# Altium footprint library WR-TBL_Rising Cage Clamp_3.50mm.PcbLib: 34 footprints (part 2 of 3)
Each footprint in its own frame and in the unit in brackets; x right, y up, seen from the top. Pads: shape width x height; smd on the part's side, far side on the other; paste and mask are expansions set on the pad; w line width, h text height; cw(c..) or ccw(c..) is an arc to the next point about the centre after c.
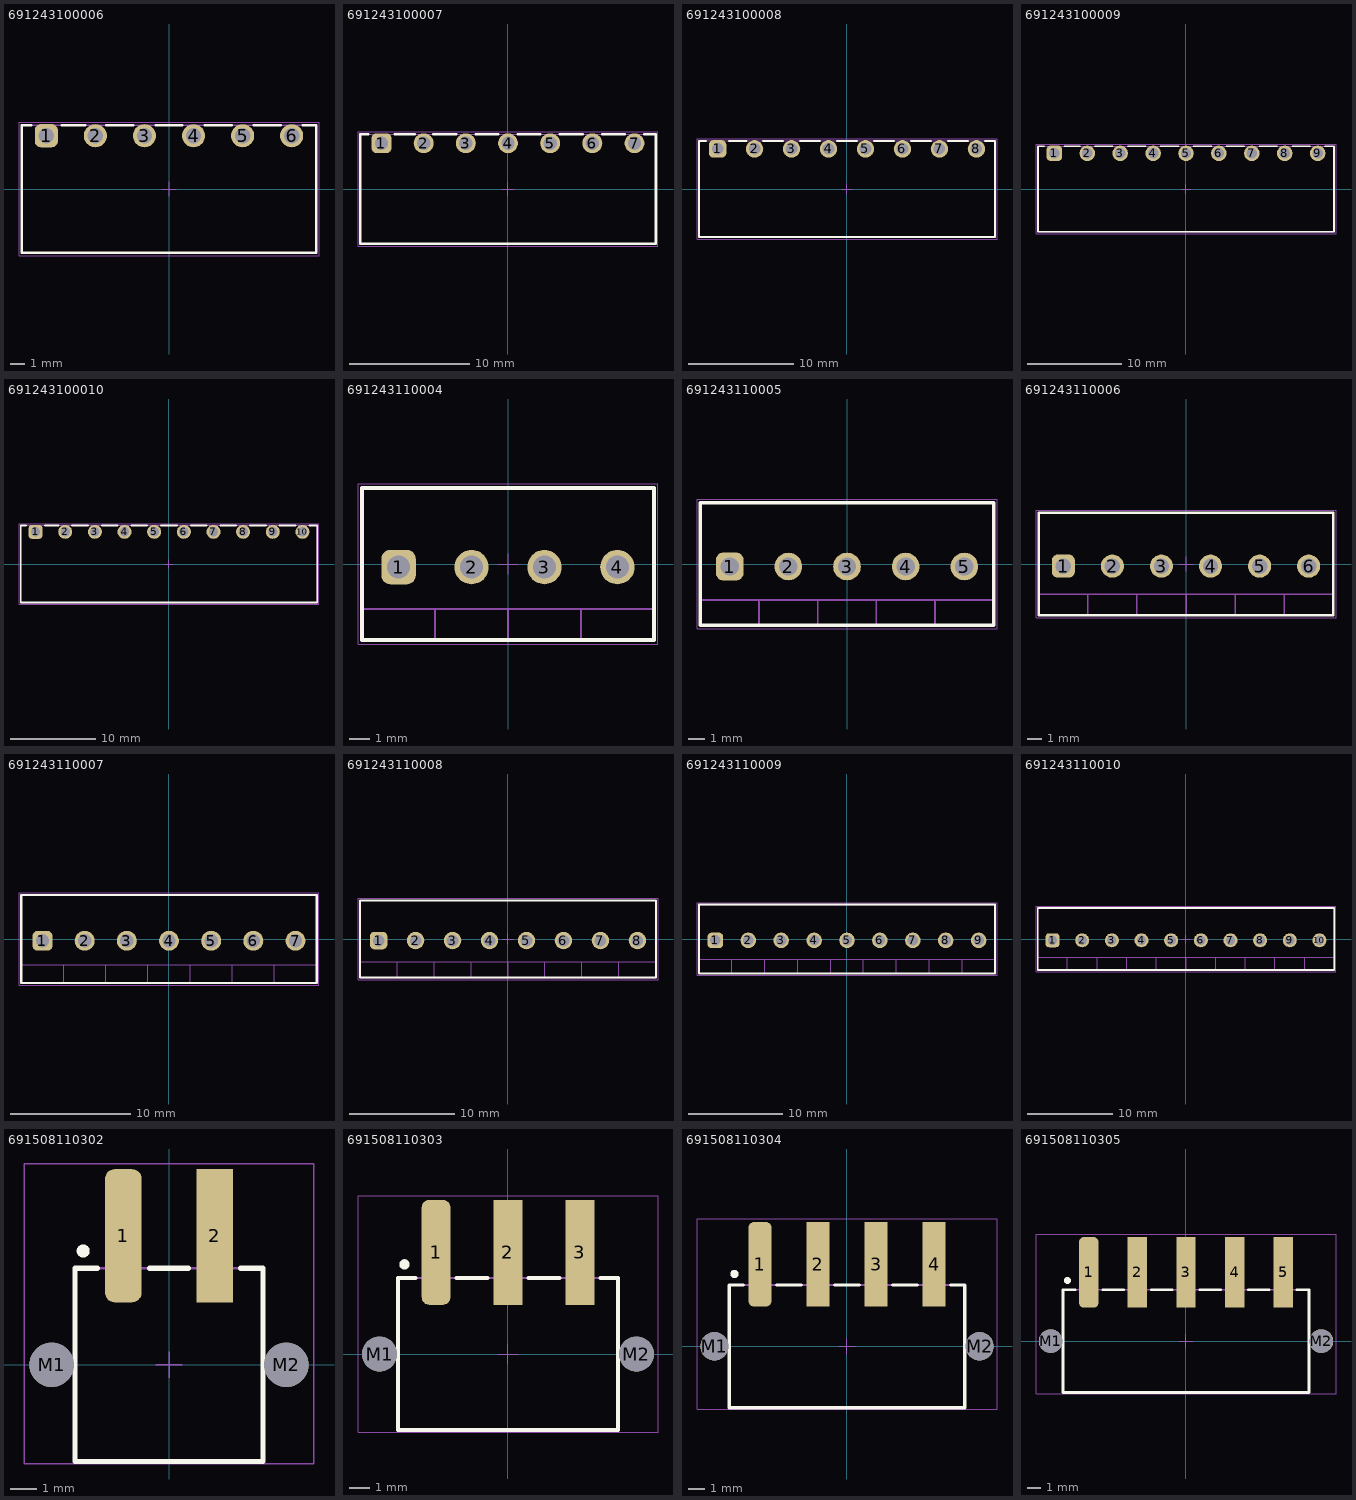
[diagram p1: the footprints below, top view; thin cyan lines are the x and y axes]

## 691243100006 [mm] "Serie 2431 - 3.50 mm _ 6 pins"
height 7.3
pads (6):
  rrect50% 1.65x1.65 hole 1.1: 1(-8.75,3.8)
  round 1.65 hole 1.1: 2(-5.25,3.8) 3(-1.75,3.8) 4(1.75,3.8) 5(5.25,3.8) 6(8.75,3.8)
Top Overlay:
  lines w0.2: -9.85,4.55 -10.5,4.55 -10.5,-4.55 10.5,-4.55 10.5,4.55 9.55,4.55 ; -7.65,4.55 -6,4.55 ; -4.45,4.55 -2.55,4.55 ; -0.95,4.55 0.95,4.55 ; 2.55,4.55 4.45,4.55 ; 6.05,4.55 7.95,4.55
Top Designator:
  text ".Designator" at -7.498,-0.5 h1.5
Top Component Outline:
  lines w0.1: -10.5,-4.55 10.5,-4.55 10.5,4.55 -10.5,4.55 -10.5,-4.55
Top 3D Body:
  lines w0.1: -10.5,-4.55 -10.5,4.55 10.5,4.55 10.5,-4.55 -10.5,-4.55
Top Courtyard:
  lines w0.05: -10.7,-4.75 10.7,-4.75 10.7,4.75 -10.7,4.75 -10.7,-4.75
Top Component Center:
  lines w0.05: -0.5,0 0.5,0 ; 0,-0.5 0,0.5
3D body "691243100006.stp": height 7.35, standoff -3.45, extent -10.5,-4.55 10.5,4.55

## 691243100007 [mm] "Serie 2431 - 3.50 mm _ 7 pins"
height 7.3
pads (7):
  rrect50% 1.65x1.65 hole 1.1: 1(-10.5,3.8)
  round 1.65 hole 1.1: 2(-7,3.8) 3(-3.5,3.8) 4(0,3.8) 5(3.5,3.8) 6(7,3.8) 7(10.5,3.8)
Top Overlay:
  lines w0.2: -11.6,4.55 -12.25,4.55 -12.25,-4.55 12.25,-4.55 12.25,4.55 11.3,4.55 ; -9.4,4.55 -7.75,4.55 ; -6.2,4.55 -4.3,4.55 ; -2.7,4.55 -0.8,4.55 ; 0.8,4.55 2.7,4.55 ; 4.3,4.55 6.2,4.55 ; 7.8,4.55 9.7,4.55
Top Designator:
  text ".Designator" at -7.498,-0.5 h1.5
Top Component Outline:
  lines w0.1: -12.25,-4.55 12.25,-4.55 12.25,4.55 -12.25,4.55 -12.25,-4.55
Top 3D Body:
  lines w0.1: -12.25,-4.55 -12.25,4.55 12.25,4.55 12.25,-4.55 -12.25,-4.55
Top Courtyard:
  lines w0.05: -12.45,-4.75 12.45,-4.75 12.45,4.75 -12.45,4.75 -12.45,-4.75
Top Component Center:
  lines w0.05: -0.5,0 0.5,0 ; 0,-0.5 0,0.5
3D body "691243100007.stp": height 7.35, standoff -3.45, extent -12.25,-4.55 12.25,4.55

## 691243100008 [mm] "Serie 2431 - 3.50 mm _ 8 pins"
height 7.3
pads (8):
  rrect50% 1.65x1.65 hole 1.1: 1(-12.25,3.8)
  round 1.65 hole 1.1: 2(-8.75,3.8) 3(-5.25,3.8) 4(-1.75,3.8) 5(1.75,3.8) 6(5.25,3.8) 7(8.75,3.8) 8(12.25,3.8)
Top Overlay:
  lines w0.2: -13.35,4.55 -14,4.55 -14,-4.55 14,-4.55 14,4.55 13.05,4.55 ; -11.15,4.55 -9.5,4.55 ; -7.95,4.55 -6.05,4.55 ; -4.45,4.55 -2.55,4.55 ; -0.95,4.55 0.95,4.55 ; 2.55,4.55 4.45,4.55 ; 6.05,4.55 7.95,4.55 ; 9.55,4.55 11.45,4.55
Top Designator:
  text ".Designator" at -7.498,-0.5 h1.5
Top Component Outline:
  lines w0.1: -14,-4.55 -14,4.55 14,4.55 14,-4.55 -14,-4.55
Top 3D Body:
  lines w0.1: -14,-4.55 14,-4.55 14,4.55 -14,4.55 -14,-4.55
Top Courtyard:
  lines w0.05: -14.2,-4.75 -14.2,4.75 14.2,4.75 14.2,-4.75 -14.2,-4.75
Top Component Center:
  lines w0.05: -0.5,0 0.5,0 ; 0,-0.5 0,0.5
3D body "691243100008.stp": height 7.35, standoff -3.45, extent -14,-4.55 14,4.55

## 691243100009 [mm] "Serie 2431 - 3.50 mm _ 9 pins"
height 7.3
pads (9):
  rrect50% 1.65x1.65 hole 1.1: 1(-14,3.8)
  round 1.65 hole 1.1: 2(-10.5,3.8) 3(-7,3.8) 4(-3.5,3.8) 5(0,3.8) 6(3.5,3.8) 7(7,3.8) 8(10.5,3.8) 9(14,3.8)
Top Overlay:
  lines w0.2: -15.1,4.55 -15.75,4.55 -15.75,-4.55 15.75,-4.55 15.75,4.55 14.8,4.55 ; -12.9,4.55 -11.25,4.55 ; -9.7,4.55 -7.8,4.55 ; -6.2,4.55 -4.3,4.55 ; -2.7,4.55 -0.8,4.55 ; 0.8,4.55 2.7,4.55 ; 4.3,4.55 6.2,4.55 ; 7.8,4.55 9.7,4.55 ; 11.3,4.55 13.2,4.55
Top Designator:
  text ".Designator" at -7.498,-0.5 h1.5
Top Component Outline:
  lines w0.1: -15.75,-4.55 15.75,-4.55 15.75,4.55 -15.75,4.55 -15.75,-4.55
Top 3D Body:
  lines w0.1: -15.75,-4.55 -15.75,4.55 15.75,4.55 15.75,-4.55 -15.75,-4.55
Top Courtyard:
  lines w0.05: -15.95,-4.75 15.95,-4.75 15.95,4.75 -15.95,4.75 -15.95,-4.75
Top Component Center:
  lines w0.05: -0.5,0 0.5,0 ; 0,-0.5 0,0.5
3D body "691243100009.stp": height 7.35, standoff -3.45, extent -15.75,-4.55 15.75,4.55

## 691243100010 [mm] "Serie 2431 - 3.50 mm _ 10 pins"
height 7.3
pads (10):
  rrect50% 1.65x1.65 hole 1.1: 1(-15.75,3.8)
  round 1.65 hole 1.1: 2(-12.25,3.8) 3(-8.75,3.8) 4(-5.25,3.8) 5(-1.75,3.8) 6(1.75,3.8) 7(5.25,3.8) 8(8.75,3.8) 9(12.25,3.8) 10(15.75,3.8)
Top Overlay:
  lines w0.2: -16.85,4.55 -17.5,4.55 -17.5,-4.55 17.5,-4.55 17.5,4.55 16.55,4.55 ; -14.65,4.55 -13,4.55 ; -11.45,4.55 -9.55,4.55 ; -7.95,4.55 -6.05,4.55 ; -4.45,4.55 -2.55,4.55 ; -0.95,4.55 0.95,4.55 ; 2.55,4.55 4.45,4.55 ; 6.05,4.55 7.95,4.55 ; 9.55,4.55 11.45,4.55 ; 13.05,4.55 14.95,4.55
Top Designator:
  text ".Designator" at -7.498,-0.5 h1.5
Top Component Outline:
  lines w0.1: -17.5,-4.55 17.5,-4.55 17.5,4.55 -17.5,4.55 -17.5,-4.55
Top 3D Body:
  lines w0.1: -17.5,-4.55 -17.5,4.55 17.5,4.55 17.5,-4.55 -17.5,-4.55
Top Courtyard:
  lines w0.05: -17.7,-4.75 17.7,-4.75 17.7,4.75 -17.7,4.75 -17.7,-4.75
Top Component Center:
  lines w0.05: -0.5,0 0.5,0 ; 0,-0.5 0,0.5
3D body "691243100010.stp": height 7.35, standoff -3.45, extent -17.5,-4.55 17.5,4.55

## 691243110004 [mm] "Serie 2431 - 3.50 mm_4 pins"
height 9.1
pads (4):
  rrect50% 1.65x1.65 hole 1.1: 1(-5.25,-0.15)
  round 1.65 hole 1.1: 2(-1.75,-0.15) 3(1.75,-0.15) 4(5.25,-0.15)
Top Overlay:
  lines w0.2: -7,-3.65 7,-3.65 7,3.65 -7,3.65 -7,-3.65
Top Designator:
  text ".Designator" at -7.498,-0.5 h1.5
Top Component Outline:
  lines w0.1: -7,-2.15 7,-2.15 ; -3.5,-3.65 -3.5,-2.15 ; 0,-3.65 0,-2.15 ; 3.5,-3.65 3.5,-2.15 ; -7,-3.65 -7,3.65 7,3.65 7,-3.65 -7,-3.65
Top 3D Body:
  lines w0.1: -7,-2.15 7,-2.15 ; -3.5,-3.65 -3.5,-2.15 ; 0,-3.65 0,-2.15 ; 3.5,-3.65 3.5,-2.15 ; -7,-3.65 7,-3.65 7,3.65 -7,3.65 -7,-3.65
Top Courtyard:
  lines w0.05: -7.2,-3.85 7.2,-3.85 7.2,3.85 -7.2,3.85 -7.2,-3.85
Top Component Center:
  lines w0.05: -0.5,0 0.5,0 ; 0,-0.5 0,0.5
3D body "691243110004.stp": height 9.15, standoff -3.45, extent -7,-3.65 7,3.65

## 691243110005 [mm] "Serie 2431 - 3.50 mm_5 pins"
height 9.1
pads (5):
  rrect50% 1.65x1.65 hole 1.1: 1(-7,-0.15)
  round 1.65 hole 1.1: 2(-3.5,-0.15) 3(0,-0.15) 4(3.5,-0.15) 5(7,-0.15)
Top Overlay:
  lines w0.2: -8.75,-3.65 8.75,-3.65 8.75,3.65 -8.75,3.65 -8.75,-3.65
Top Designator:
  text ".Designator" at -7.498,-0.5 h1.5
Top Component Outline:
  lines w0.1: -8.75,-2.15 8.75,-2.15 ; -5.25,-3.65 -5.25,-2.15 ; -1.75,-3.65 -1.75,-2.15 ; 1.75,-3.65 1.75,-2.15 ; 5.25,-3.65 5.25,-2.15 ; -8.75,-3.65 -8.75,3.65 8.75,3.65 8.75,-3.65 -8.75,-3.65
Top 3D Body:
  lines w0.1: -8.75,-2.15 8.75,-2.15 ; -5.25,-3.65 -5.25,-2.15 ; -1.75,-3.65 -1.75,-2.15 ; 1.75,-3.65 1.75,-2.15 ; 5.25,-3.65 5.25,-2.15 ; -8.75,-3.65 8.75,-3.65 8.75,3.65 -8.75,3.65 -8.75,-3.65
Top Courtyard:
  lines w0.05: -8.95,-3.85 8.95,-3.85 8.95,3.85 -8.95,3.85 -8.95,-3.85
Top Component Center:
  lines w0.05: -0.5,0 0.5,0 ; 0,-0.5 0,0.5
3D body "691243110005.stp": height 9.15, standoff -3.45, extent -8.75,-3.65 8.75,3.65

## 691243110006 [mm] "Serie 2431 - 3.50 mm_6 pins"
height 9.1
pads (6):
  rrect50% 1.65x1.65 hole 1.1: 1(-8.75,-0.15)
  round 1.65 hole 1.1: 2(-5.25,-0.15) 3(-1.75,-0.15) 4(1.75,-0.15) 5(5.25,-0.15) 6(8.75,-0.15)
Top Overlay:
  lines w0.2: -10.5,-3.65 10.5,-3.65 10.5,3.65 -10.5,3.65 -10.5,-3.65
Top Designator:
  text ".Designator" at -7.498,-0.5 h1.5
Top Component Outline:
  lines w0.1: -10.5,-2.15 10.5,-2.15 ; -7,-3.65 -7,-2.15 ; -3.5,-3.65 -3.5,-2.15 ; 0,-3.65 0,-2.15 ; 3.5,-3.65 3.5,-2.15 ; 7,-3.65 7,-2.15 ; -10.5,-3.65 -10.5,3.65 10.5,3.65 10.5,-3.65 -10.5,-3.65
Top 3D Body:
  lines w0.1: -10.5,-2.15 10.5,-2.15 ; -7,-3.65 -7,-2.15 ; -3.5,-3.65 -3.5,-2.15 ; 0,-3.65 0,-2.15 ; 3.5,-3.65 3.5,-2.15 ; 7,-3.65 7,-2.15 ; -10.5,-3.65 10.5,-3.65 10.5,3.65 -10.5,3.65 -10.5,-3.65
Top Courtyard:
  lines w0.05: -10.7,-3.85 10.7,-3.85 10.7,3.85 -10.7,3.85 -10.7,-3.85
Top Component Center:
  lines w0.05: -0.5,0 0.5,0 ; 0,-0.5 0,0.5
3D body "691243110006.stp": height 9.15, standoff -3.45, extent -10.5,-3.65 10.5,3.65

## 691243110007 [mm] "Serie 2431 - 3.50 mm_7 pins"
height 9.1
pads (7):
  rrect50% 1.65x1.65 hole 1.1: 1(-10.5,-0.15)
  round 1.65 hole 1.1: 2(-7,-0.15) 3(-3.5,-0.15) 4(0,-0.15) 5(3.5,-0.15) 6(7,-0.15) 7(10.5,-0.15)
Top Overlay:
  lines w0.2: -12.25,-3.65 12.25,-3.65 12.25,3.65 -12.25,3.65 -12.25,-3.65
Top Designator:
  text ".Designator" at -7.498,-0.5 h1.5
Top Component Outline:
  lines w0.1: -12.25,-2.15 12.25,-2.15 ; -8.75,-3.65 -8.75,-2.15 ; -5.25,-3.65 -5.25,-2.15 ; -1.75,-3.65 -1.75,-2.15 ; 1.75,-3.65 1.75,-2.15 ; 5.25,-3.65 5.25,-2.15 ; 8.75,-3.65 8.75,-2.15 ; -12.25,-3.65 -12.25,3.65 12.25,3.65 12.25,-3.65 -12.25,-3.65
Top 3D Body:
  lines w0.1: -12.25,-2.15 12.25,-2.15 ; -8.75,-3.65 -8.75,-2.15 ; -5.25,-3.65 -5.25,-2.15 ; -1.75,-3.65 -1.75,-2.15 ; 1.75,-3.65 1.75,-2.15 ; 5.25,-3.65 5.25,-2.15 ; 8.75,-3.65 8.75,-2.15 ; -12.25,-3.65 12.25,-3.65 12.25,3.65 -12.25,3.65 -12.25,-3.65
Top Courtyard:
  lines w0.05: -12.45,-3.85 12.45,-3.85 12.45,3.85 -12.45,3.85 -12.45,-3.85
Top Component Center:
  lines w0.05: -0.5,0 0.5,0 ; 0,-0.5 0,0.5
3D body "691243110007.stp": height 9.15, standoff -3.45, extent -12.25,-3.65 12.25,3.65

## 691243110008 [mm] "Serie 2431 - 3.50 mm_8 pins"
height 9.1
pads (8):
  rrect50% 1.65x1.65 hole 1.1: 1(-12.25,-0.15)
  round 1.65 hole 1.1: 2(-8.75,-0.15) 3(-5.25,-0.15) 4(-1.75,-0.15) 5(1.75,-0.15) 6(5.25,-0.15) 7(8.75,-0.15) 8(12.25,-0.15)
Top Overlay:
  lines w0.2: -14,-3.65 -14,3.65 14,3.65 14,-3.65 -14,-3.65
Top Designator:
  text ".Designator" at -7.498,-0.5 h1.5
Top Component Outline:
  lines w0.1: -14,-2.15 14,-2.15 ; -10.5,-3.65 -10.5,-2.15 ; -7,-3.65 -7,-2.15 ; -3.5,-3.65 -3.5,-2.15 ; 0,-3.65 0,-2.15 ; 3.5,-3.65 3.5,-2.15 ; 7,-3.65 7,-2.15 ; 10.5,-3.65 10.5,-2.15 ; -14,-3.65 14,-3.65 14,3.65 -14,3.65 -14,-3.65
Top 3D Body:
  lines w0.1: -14,-2.15 14,-2.15 ; -10.5,-3.65 -10.5,-2.15 ; -7,-3.65 -7,-2.15 ; -3.5,-3.65 -3.5,-2.15 ; 0,-3.65 0,-2.15 ; 3.5,-3.65 3.5,-2.15 ; 7,-3.65 7,-2.15 ; 10.5,-3.65 10.5,-2.15 ; -14,-3.65 -14,3.65 14,3.65 14,-3.65 -14,-3.65
Top Courtyard:
  lines w0.05: -14.2,-3.85 -14.2,3.85 14.2,3.85 14.2,-3.85 -14.2,-3.85
Top Component Center:
  lines w0.05: -0.5,0 0.5,0 ; 0,-0.5 0,0.5
3D body "691243110008.stp": height 9.15, standoff -3.45, extent -14,-3.65 14,3.65

## 691243110009 [mm] "Serie 2431 - 3.50 mm_9 pins"
height 9.1
pads (9):
  rrect50% 1.65x1.65 hole 1.1: 1(-14,-0.15)
  round 1.65 hole 1.1: 2(-10.5,-0.15) 3(-7,-0.15) 4(-3.5,-0.15) 5(0,-0.15) 6(3.5,-0.15) 7(7,-0.15) 8(10.5,-0.15) 9(14,-0.15)
Top Overlay:
  lines w0.2: -15.75,-3.65 15.75,-3.65 15.75,3.65 -15.75,3.65 -15.75,-3.65
Top Designator:
  text ".Designator" at -7.498,-0.5 h1.5
Top Component Outline:
  lines w0.1: -15.75,-2.15 15.75,-2.15 ; -12.25,-3.65 -12.25,-2.15 ; -8.75,-3.65 -8.75,-2.15 ; -5.25,-3.65 -5.25,-2.15 ; -1.75,-3.65 -1.75,-2.15 ; 1.75,-3.65 1.75,-2.15 ; 5.25,-3.65 5.25,-2.15 ; 8.75,-3.65 8.75,-2.15 ; 12.25,-3.65 12.25,-2.15 ; -15.75,-3.65 -15.75,3.65 15.75,3.65 15.75,-3.65 -15.75,-3.65
Top 3D Body:
  lines w0.1: -15.75,-2.15 15.75,-2.15 ; -12.25,-3.65 -12.25,-2.15 ; -8.75,-3.65 -8.75,-2.15 ; -5.25,-3.65 -5.25,-2.15 ; -1.75,-3.65 -1.75,-2.15 ; 1.75,-3.65 1.75,-2.15 ; 5.25,-3.65 5.25,-2.15 ; 8.75,-3.65 8.75,-2.15 ; 12.25,-3.65 12.25,-2.15 ; -15.75,-3.65 15.75,-3.65 15.75,3.65 -15.75,3.65 -15.75,-3.65
Top Courtyard:
  lines w0.05: -15.95,-3.85 15.95,-3.85 15.95,3.85 -15.95,3.85 -15.95,-3.85
Top Component Center:
  lines w0.05: -0.5,0 0.5,0 ; 0,-0.5 0,0.5
3D body "691243110009.stp": height 9.15, standoff -3.45, extent -15.75,-3.65 15.75,3.65

## 691243110010 [mm] "Serie 2431 - 3.50 mm_10 pins"
height 9.1
pads (10):
  rrect50% 1.65x1.65 hole 1.1: 1(-15.75,-0.15)
  round 1.65 hole 1.1: 2(-12.25,-0.15) 3(-8.75,-0.15) 4(-5.25,-0.15) 5(-1.75,-0.15) 6(1.75,-0.15) 7(5.25,-0.15) 8(8.75,-0.15) 9(12.25,-0.15) 10(15.75,-0.15)
Top Overlay:
  lines w0.2: -17.5,-3.65 -17.5,3.65 17.5,3.65 17.5,-3.65 -17.5,-3.65
Top Designator:
  text ".Designator" at -7.498,-0.5 h1.5
Top Component Outline:
  lines w0.1: -17.5,-2.15 17.5,-2.15 ; -14,-3.65 -14,-2.15 ; -10.5,-3.65 -10.5,-2.15 ; -7,-3.65 -7,-2.15 ; -3.5,-3.65 -3.5,-2.15 ; 0,-3.65 0,-2.15 ; 3.5,-3.65 3.5,-2.15 ; 7,-3.65 7,-2.15 ; 10.5,-3.65 10.5,-2.15 ; 14,-3.65 14,-2.15 ; -17.5,-3.65 17.5,-3.65 17.5,3.65 -17.5,3.65 -17.5,-3.65
Top 3D Body:
  lines w0.1: -17.5,-2.15 17.5,-2.15 ; -14,-3.65 -14,-2.15 ; -10.5,-3.65 -10.5,-2.15 ; -7,-3.65 -7,-2.15 ; -3.5,-3.65 -3.5,-2.15 ; 0,-3.65 0,-2.15 ; 3.5,-3.65 3.5,-2.15 ; 7,-3.65 7,-2.15 ; 10.5,-3.65 10.5,-2.15 ; 14,-3.65 14,-2.15 ; -17.5,-3.65 -17.5,3.65 17.5,3.65 17.5,-3.65 -17.5,-3.65
Top Courtyard:
  lines w0.05: -17.7,-3.85 -17.7,3.85 17.7,3.85 17.7,-3.85 -17.7,-3.85
Top Component Center:
  lines w0.05: -0.5,0 0.5,0 ; 0,-0.5 0,0.5
3D body "691243110010.stp": height 9.15, standoff -3.45, extent -17.5,-3.65 17.5,3.65

## 691508110302 [mm] "WR-TBL Terminal block - serie 5081 3,50mm - SMT - Horizontal entry with rising clamp - 02p"
height 11.2
pads (4):
  rrect50% 1.4x5.1 smd: 1(-1.75,4.95)
  rect 1.4x5.1 smd: 2(1.75,4.95)
  round 1.7 hole 1.7 unplated: M1(-4.5,0) M2(4.5,0)
Top Overlay:
  circle w0.25: c-3.29,4.365 r0.125
  lines w0.2: -2.75,3.7 -3.6,3.7 -3.6,-3.7 3.6,-3.7 3.6,3.7 2.75,3.7 ; -0.75,3.7 0.75,3.7
Top Designator:
  text ".Designator" at -7.498,-0.5 h1.5
Top Component Outline:
  lines w0.1: -2.225,3.7 -2.225,7.2 -1.275,7.2 -1.275,3.7 ; 1.275,3.7 1.275,7.2 2.225,7.2 2.225,3.7 ; -3.6,-3.7 -3.6,3.7 3.6,3.7 3.6,-3.7 -3.6,-3.7
Top 3D Body:
  lines w0.1: -2.225,3.7 -2.225,7.2 -1.275,7.2 -1.275,3.7 ; 1.275,3.7 1.275,7.2 2.225,7.2 2.225,3.7 ; -3.6,-3.7 3.6,-3.7 3.6,3.7 -3.6,3.7 -3.6,-3.7
Top Courtyard:
  lines w0.05: -5.55,-3.8 -5.55,7.7 5.55,7.7 5.55,-3.8 -5.55,-3.8
Top Component Center:
  lines w0.05: -0.5,0 0.5,0 ; 0,-0.5 0,0.5
3D body "691508110302.stp": height 11.25, standoff -1.95, extent -5.175,-3.695 5.175,7.205

## 691508110303 [mm] "WR-TBL Terminal block - serie 5081 3,50mm - SMT - Horizontal entry with rising clamp - 03p"
height 11.2
pads (5):
  rrect50% 1.4x5.1 smd: 1(-3.5,4.95)
  rect 1.4x5.1 smd: 2(0,4.95) 3(3.5,4.95)
  round 1.7 hole 1.7 unplated: M1(-6.25,0) M2(6.25,0)
Top Overlay:
  circle w0.25: c-5.04,4.365 r0.125
  lines w0.2: -4.5,3.7 -5.35,3.7 -5.35,-3.7 5.35,-3.7 5.35,3.7 4.5,3.7 ; -2.5,3.7 -1,3.7 ; 1,3.7 2.5,3.7
Top Designator:
  text ".Designator" at -7.498,-0.5 h1.5
Top Component Outline:
  lines w0.1: -3.975,3.7 -3.975,7.2 -3.025,7.2 -3.025,3.7 ; -0.475,3.7 -0.475,7.2 0.475,7.2 0.475,3.7 ; 3.025,3.7 3.025,7.2 3.975,7.2 3.975,3.7 ; -5.35,-3.7 5.35,-3.7 5.35,3.7 -5.35,3.7 -5.35,-3.7
Top 3D Body:
  lines w0.1: -3.975,3.7 -3.975,7.2 -3.025,7.2 -3.025,3.7 ; -0.475,3.7 -0.475,7.2 0.475,7.2 0.475,3.7 ; 3.025,3.7 3.025,7.2 3.975,7.2 3.975,3.7 ; -5.35,-3.7 -5.35,3.7 5.35,3.7 5.35,-3.7 -5.35,-3.7
Top Courtyard:
  lines w0.05: -7.3,-3.8 7.3,-3.8 7.3,7.7 -7.3,7.7 -7.3,-3.8
Top Component Center:
  lines w0.05: -0.5,0 0.5,0 ; 0,-0.5 0,0.5
3D body "691508110303.stp": height 11.25, standoff -1.95, extent -6.925,-3.7 6.925,7.2

## 691508110304 [mm] "WR-TBL Terminal block - serie 5081 3,50mm - SMT - Horizontal entry with rising clamp - 04p"
height 11.2
pads (6):
  rrect50% 1.4x5.1 smd: 1(-5.25,4.95)
  rect 1.4x5.1 smd: 2(-1.75,4.95) 3(1.75,4.95) 4(5.25,4.95)
  round 1.7 hole 1.7 unplated: M1(-8,0) M2(8,0)
Top Overlay:
  circle w0.25: c-6.79,4.365 r0.125
  lines w0.2: -6.25,3.7 -7.1,3.7 -7.1,-3.7 7.1,-3.7 7.1,3.7 6.25,3.7 ; -4.25,3.7 -2.75,3.7 ; -0.75,3.7 0.75,3.7 ; 2.75,3.7 4.25,3.7
Top Designator:
  text ".Designator" at -7.498,-0.5 h1.5
Top Component Outline:
  lines w0.1: -5.725,3.7 -5.725,7.2 -4.775,7.2 -4.775,3.7 ; -2.225,3.7 -2.225,7.2 -1.275,7.2 -1.275,3.7 ; 1.275,3.7 1.275,7.2 2.225,7.2 2.225,3.7 ; 4.775,3.7 4.775,7.2 5.725,7.2 5.725,3.7 ; -7.1,-3.7 7.1,-3.7 7.1,3.7 -7.1,3.7 -7.1,-3.7
Top 3D Body:
  lines w0.1: -5.725,3.7 -5.725,7.2 -4.775,7.2 -4.775,3.7 ; -2.225,3.7 -2.225,7.2 -1.275,7.2 -1.275,3.7 ; 1.275,3.7 1.275,7.2 2.225,7.2 2.225,3.7 ; 4.775,3.7 4.775,7.2 5.725,7.2 5.725,3.7 ; -7.1,-3.7 -7.1,3.7 7.1,3.7 7.1,-3.7 -7.1,-3.7
Top Courtyard:
  lines w0.05: -9.05,-3.8 9.05,-3.8 9.05,7.7 -9.05,7.7 -9.05,-3.8
Top Component Center:
  lines w0.05: -0.5,0 0.5,0 ; 0,-0.5 0,0.5
3D body "691508110304.stp": height 11.25, standoff -1.95, extent -8.675,-3.7 8.675,7.2

## 691508110305 [mm] "WR-TBL Terminal block - serie 5081 3,50mm - SMT - Horizontal entry with rising clamp - 05p"
height 11.2
pads (7):
  rrect50% 1.4x5.1 smd: 1(-7,4.95)
  rect 1.4x5.1 smd: 2(-3.5,4.95) 3(0,4.95) 4(3.5,4.95) 5(7,4.95)
  round 1.7 hole 1.7 unplated: M1(-9.75,0) M2(9.75,0)
Top Overlay:
  circle w0.25: c-8.54,4.365 r0.125
  lines w0.2: -8,3.7 -8.85,3.7 -8.85,-3.7 8.85,-3.7 8.85,3.7 8,3.7 ; -6,3.7 -4.5,3.7 ; -2.5,3.7 -1,3.7 ; 1,3.7 2.5,3.7 ; 4.5,3.7 6,3.7
Top Designator:
  text ".Designator" at -7.498,-0.5 h1.5
Top Component Outline:
  lines w0.1: -7.475,3.7 -7.475,7.2 -6.525,7.2 -6.525,3.7 ; -3.975,3.7 -3.975,7.2 -3.025,7.2 -3.025,3.7 ; -0.475,3.7 -0.475,7.2 0.475,7.2 0.475,3.7 ; 3.025,3.7 3.025,7.2 3.975,7.2 3.975,3.7 ; 6.525,3.7 6.525,7.2 7.475,7.2 7.475,3.7 ; -8.85,-3.7 8.85,-3.7 8.85,3.7 -8.85,3.7 -8.85,-3.7
Top 3D Body:
  lines w0.1: -7.475,3.7 -7.475,7.2 -6.525,7.2 -6.525,3.7 ; -3.975,3.7 -3.975,7.2 -3.025,7.2 -3.025,3.7 ; -0.475,3.7 -0.475,7.2 0.475,7.2 0.475,3.7 ; 3.025,3.7 3.025,7.2 3.975,7.2 3.975,3.7 ; 6.525,3.7 6.525,7.2 7.475,7.2 7.475,3.7 ; -8.85,-3.7 -8.85,3.7 8.85,3.7 8.85,-3.7 -8.85,-3.7
Top Courtyard:
  lines w0.05: -10.8,-3.8 10.8,-3.8 10.8,7.7 -10.8,7.7 -10.8,-3.8
Top Component Center:
  lines w0.05: -0.5,0 0.5,0 ; 0,-0.5 0,0.5
3D body "691508110305.stp": height 11.25, standoff -1.95, extent -10.425,-3.7 10.425,7.2